# Altium schematic symbol library WE-HCI.SchLib: 126 symbols (part 2 of 3)
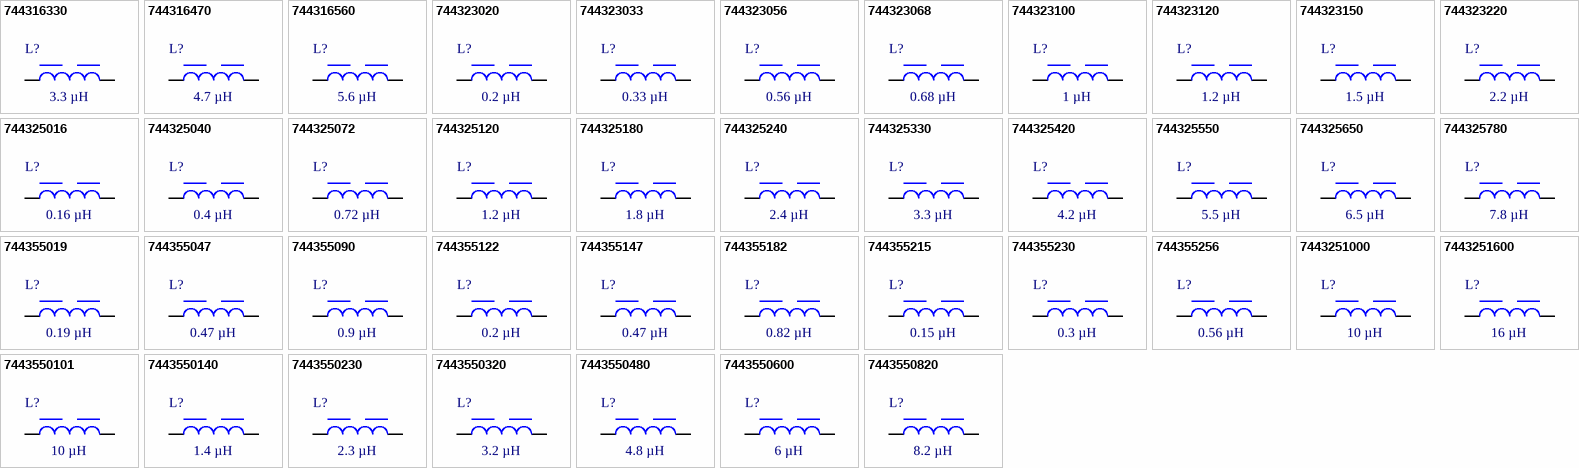
[diagram p4: symbols 744316330 to 7443550820]

## 744325180
designator L?, comment 1.8 µH
WE-HCI SMT Flat Wire High Current Inductor, size 1050, 1.8 µH, 22.1 A, 3.5 mΩ; Manufacturer Part Number: 744325180; Manufacturer: Wurth Elektronik; Case/Size Code: 1050; DC Resistance: 3.5 mΩ; Material: Superflux; Performance Rated Current: 22.1 A; Saturation Current: 18 A; Self Resonant Frequency: 70 MHz; Category: Power Inductors; Match Code: WE-HCI; ComponentLink1Description: Website Link; ComponentLink1URL: https://www.we-online.com/redexpert/article/744325180?ad; ComponentLink2Description: Datasheet Link; ComponentLink2URL: https://www.we-online.com/redexpert/spec/744325180?ad; Mount: Surface Mount; Min Operating Temperature: -40 °C; Max Operating Temperature: 150 °C; Packaging: Tape and Reel; Length: 10.2 mm; Width: 10.2 mm; Height: 4.7 mm; Inductance: 1.8 µH
footprint WE-HCI_1050
simulation model 1050_744325180_1.8u
pins: 1, 2

## 744325240
designator L?, comment 2.4 µH
WE-HCI SMT Flat Wire High Current Inductor, size 1050, 2.4 µH, 18.6 A, 4.75 mΩ; Manufacturer Part Number: 744325240; Manufacturer: Wurth Elektronik; Case/Size Code: 1050; DC Resistance: 4.75 mΩ; Material: Superflux; Performance Rated Current: 18.6 A; Saturation Current: 17 A; Self Resonant Frequency: 67 MHz; Category: Power Inductors; Match Code: WE-HCI; ComponentLink1Description: Website Link; ComponentLink1URL: https://www.we-online.com/redexpert/article/744325240?ad; ComponentLink2Description: Datasheet Link; ComponentLink2URL: https://www.we-online.com/redexpert/spec/744325240?ad; Mount: Surface Mount; Min Operating Temperature: -40 °C; Max Operating Temperature: 150 °C; Packaging: Tape and Reel; Length: 10.2 mm; Width: 10.2 mm; Height: 4.7 mm; Inductance: 2.4 µH
footprint WE-HCI_1050
simulation model 1050_744325240_2.4u
pins: 1, 2

## 744325330
designator L?, comment 3.3 µH
WE-HCI SMT Flat Wire High Current Inductor, size 1050, 3.3 µH, 16.6 A, 5.9 mΩ; Manufacturer Part Number: 744325330; Manufacturer: Wurth Elektronik; Case/Size Code: 1050; DC Resistance: 5.9 mΩ; Material: Superflux; Performance Rated Current: 16.6 A; Saturation Current: 15 A; Self Resonant Frequency: 54 MHz; Category: Power Inductors; Match Code: WE-HCI; ComponentLink1Description: Website Link; ComponentLink1URL: https://www.we-online.com/redexpert/article/744325330?ad; ComponentLink2Description: Datasheet Link; ComponentLink2URL: https://www.we-online.com/redexpert/spec/744325330?ad; Mount: Surface Mount; Min Operating Temperature: -40 °C; Max Operating Temperature: 150 °C; Packaging: Tape and Reel; Length: 10.2 mm; Width: 10.2 mm; Height: 4.7 mm; Inductance: 3.3 µH
footprint WE-HCI_1050
simulation model 1050_744325330_3.3u
pins: 1, 2

## 744325420
designator L?, comment 4.2 µH
WE-HCI SMT Flat Wire High Current Inductor, size 1050, 4.2 µH, 15.4 A, 7.1 mΩ; Manufacturer Part Number: 744325420; Manufacturer: Wurth Elektronik; Case/Size Code: 1050; DC Resistance: 7.1 mΩ; Material: Superflux; Performance Rated Current: 15.4 A; Saturation Current: 14 A; Self Resonant Frequency: 33 MHz; Category: Power Inductors; Match Code: WE-HCI; ComponentLink1Description: Website Link; ComponentLink1URL: https://www.we-online.com/redexpert/article/744325420?ad; ComponentLink2Description: Datasheet Link; ComponentLink2URL: https://www.we-online.com/redexpert/spec/744325420?ad; Mount: Surface Mount; Min Operating Temperature: -40 °C; Max Operating Temperature: 150 °C; Packaging: Tape and Reel; Length: 10.2 mm; Width: 10.2 mm; Height: 4.7 mm; Inductance: 4.2 µH
footprint WE-HCI_1050
simulation model 1050_744325420_4.2u
pins: 1, 2

## 744325550
designator L?, comment 5.5 µH
WE-HCI SMT Flat Wire High Current Inductor, size 1050, 5.5 µH, 12 A, 10.3 mΩ; Manufacturer Part Number: 744325550; Manufacturer: Wurth Elektronik; Case/Size Code: 1050; DC Resistance: 10.3 mΩ; Material: Superflux; Performance Rated Current: 12 A; Self Resonant Frequency: 30 MHz; Category: Power Inductors; Match Code: WE-HCI; ComponentLink1Description: Website Link; ComponentLink1URL: https://www.we-online.com/redexpert/article/744325550?ad; ComponentLink2Description: Datasheet Link; ComponentLink2URL: https://www.we-online.com/redexpert/spec/744325550?ad; Mount: Surface Mount; Min Operating Temperature: -40 °C; Max Operating Temperature: 150 °C; Packaging: Tape and Reel; Length: 10.2 mm; Width: 10.2 mm; Height: 4.7 mm; Inductance: 5.5 µH; Saturation Current: 12 A
footprint WE-HCI_1050
simulation model 1050_744325550_5.5u
pins: 1, 2

## 744325650
designator L?, comment 6.5 µH
WE-HCI SMT Flat Wire High Current Inductor, size 1050, 6.5 µH, 11 A, 12.5 mΩ; Manufacturer Part Number: 744325650; Manufacturer: Wurth Elektronik; Case/Size Code: 1050; DC Resistance: 12.5 mΩ; Material: Superflux; Performance Rated Current: 11 A; Saturation Current: 10 A; Self Resonant Frequency: 27 MHz; Category: Power Inductors; Match Code: WE-HCI; ComponentLink1Description: Website Link; ComponentLink1URL: https://www.we-online.com/redexpert/article/744325650?ad; ComponentLink2Description: Datasheet Link; ComponentLink2URL: https://www.we-online.com/redexpert/spec/744325650?ad; Mount: Surface Mount; Min Operating Temperature: -40 °C; Max Operating Temperature: 150 °C; Packaging: Tape and Reel; Length: 10.2 mm; Width: 10.2 mm; Height: 4.7 mm; Inductance: 6.5 µH
footprint WE-HCI_1050
simulation model 1050_744325650_6.5u
pins: 1, 2

## 744325780
designator L?, comment 7.8 µH
WE-HCI SMT Flat Wire High Current Inductor, size 1050, 7.8 µH, 10.7 A, 13.6 mΩ; Manufacturer Part Number: 744325780; Manufacturer: Wurth Elektronik; Case/Size Code: 1050; DC Resistance: 13.6 mΩ; Material: Superflux; Performance Rated Current: 10.7 A; Saturation Current: 9.5 A; Self Resonant Frequency: 23 MHz; Category: Power Inductors; Match Code: WE-HCI; ComponentLink1Description: Website Link; ComponentLink1URL: https://www.we-online.com/redexpert/article/744325780?ad; ComponentLink2Description: Datasheet Link; ComponentLink2URL: https://www.we-online.com/redexpert/spec/744325780?ad; Mount: Surface Mount; Min Operating Temperature: -40 °C; Max Operating Temperature: 150 °C; Packaging: Tape and Reel; Length: 10.2 mm; Width: 10.2 mm; Height: 4.7 mm; Inductance: 7.8 µH
footprint WE-HCI_1050
simulation model 1050_744325780_7.8u
pins: 1, 2

## 744355019
designator L?, comment 0.19 µH
WE-HCI SMT Flat Wire High Current Inductor, size 1350, 0.19 µH, 65 A, 0.5 mΩ; Manufacturer Part Number: 744355019; Manufacturer: Wurth Elektronik; Case/Size Code: 1350; DC Resistance: 0.5 mΩ; Material: WE-PERM; Performance Rated Current: 65 A; Saturation Current: 60 A; Self Resonant Frequency: 225 MHz; Category: Power Inductors; Match Code: WE-HCI; ComponentLink1Description: Website Link; ComponentLink1URL: https://www.we-online.com/redexpert/article/744355019?ad; ComponentLink2Description: Datasheet Link; ComponentLink2URL: https://www.we-online.com/redexpert/spec/744355019?ad; Mount: Surface Mount; Min Operating Temperature: -40 °C; Max Operating Temperature: 155 °C; Packaging: Tape and Reel; Length: 12.8 mm; Width: 12.8 mm; Height: 4.7 mm; Inductance: 0.19 µH
footprint WE-HCI_1350
simulation model 1350_744355019_0.19u
pins: 1, 2

## 744355047
designator L?, comment 0.47 µH
WE-HCI SMT Flat Wire High Current Inductor, size 1350, 0.47 µH, 50.1 A, 0.9 mΩ; Manufacturer Part Number: 744355047; Manufacturer: Wurth Elektronik; Case/Size Code: 1350; DC Resistance: 0.9 mΩ; Material: WE-PERM; Performance Rated Current: 50.1 A; Saturation Current: 50 A; Self Resonant Frequency: 95 MHz; Category: Power Inductors; Match Code: WE-HCI; ComponentLink1Description: Website Link; ComponentLink1URL: https://www.we-online.com/redexpert/article/744355047?ad; ComponentLink2Description: Datasheet Link; ComponentLink2URL: https://www.we-online.com/redexpert/spec/744355047?ad; Mount: Surface Mount; Min Operating Temperature: -40 °C; Max Operating Temperature: 155 °C; Packaging: Tape and Reel; Length: 12.8 mm; Width: 12.8 mm; Height: 4.7 mm; Inductance: 0.47 µH
footprint WE-HCI_1350
simulation model 1350_744355047_0.47u
pins: 1, 2

## 744355090
designator L?, comment 0.9 µH
WE-HCI SMT Flat Wire High Current Inductor, size 1350, 0.9 µH, 36 A, 1.6 mΩ; Manufacturer Part Number: 744355090; Manufacturer: Wurth Elektronik; Case/Size Code: 1350; DC Resistance: 1.6 mΩ; Material: WE-PERM; Performance Rated Current: 36 A; Saturation Current: 28 A; Self Resonant Frequency: 72 MHz; Category: Power Inductors; Match Code: WE-HCI; ComponentLink1Description: Website Link; ComponentLink1URL: https://www.we-online.com/redexpert/article/744355090?ad; ComponentLink2Description: Datasheet Link; ComponentLink2URL: https://www.we-online.com/redexpert/spec/744355090?ad; Mount: Surface Mount; Min Operating Temperature: -40 °C; Max Operating Temperature: 155 °C; Packaging: Tape and Reel; Length: 12.8 mm; Width: 12.8 mm; Height: 4.7 mm; Inductance: 0.9 µH
footprint WE-HCI_1350
simulation model 1350_744355090_0.9u
pins: 1, 2

## 744355122
designator L?, comment 0.2 µH
WE-HCI SMT Flat Wire High Current Inductor, size 1365, 0.2 µH, 69.7 A, 0.35 mΩ; Manufacturer Part Number: 744355122; Manufacturer: Wurth Elektronik; Case/Size Code: 1365; DC Resistance: 0.35 mΩ; Material: WE-PERM; Performance Rated Current: 69.7 A; Saturation Current: 65 A; Self Resonant Frequency: 230 MHz; Category: Power Inductors; Match Code: WE-HCI; ComponentLink1Description: Website Link; ComponentLink1URL: https://www.we-online.com/redexpert/article/744355122?ad; ComponentLink2Description: Datasheet Link; ComponentLink2URL: https://www.we-online.com/redexpert/spec/744355122?ad; Mount: Surface Mount; Min Operating Temperature: -40 °C; Max Operating Temperature: 155 °C; Packaging: Tape and Reel; Length: 12.8 mm; Width: 12.8 mm; Height: 6.2 mm; Inductance: 0.2 µH
footprint WE-HCI_1365
simulation model 1365_744355122_0.2u
pins: 1, 2

## 744355147
designator L?, comment 0.47 µH
WE-HCI SMT Flat Wire High Current Inductor, size 1365, 0.47 µH, 54.9 A, 0.67 mΩ; Manufacturer Part Number: 744355147; Manufacturer: Wurth Elektronik; Case/Size Code: 1365; DC Resistance: 0.67 mΩ; Material: WE-PERM; Performance Rated Current: 54.9 A; Saturation Current: 50 A; Self Resonant Frequency: 100 MHz; Category: Power Inductors; Match Code: WE-HCI; ComponentLink1Description: Website Link; ComponentLink1URL: https://www.we-online.com/redexpert/article/744355147?ad; ComponentLink2Description: Datasheet Link; ComponentLink2URL: https://www.we-online.com/redexpert/spec/744355147?ad; Mount: Surface Mount; Min Operating Temperature: -40 °C; Max Operating Temperature: 155 °C; Packaging: Tape and Reel; Length: 12.8 mm; Width: 12.8 mm; Height: 6.2 mm; Inductance: 0.47 µH
footprint WE-HCI_1365
simulation model 1365_744355147_0.47u
pins: 1, 2

## 744355182
designator L?, comment 0.82 µH
WE-HCI SMT Flat Wire High Current Inductor, size 1365, 0.82 µH, 44.5 A, 0.9 mΩ; Manufacturer Part Number: 744355182; Manufacturer: Wurth Elektronik; Case/Size Code: 1365; DC Resistance: 0.9 mΩ; Material: WE-PERM; Performance Rated Current: 44.5 A; Saturation Current: 35 A; Self Resonant Frequency: 72 MHz; Category: Power Inductors; Match Code: WE-HCI; ComponentLink1Description: Website Link; ComponentLink1URL: https://www.we-online.com/redexpert/article/744355182?ad; ComponentLink2Description: Datasheet Link; ComponentLink2URL: https://www.we-online.com/redexpert/spec/744355182?ad; Mount: Surface Mount; Min Operating Temperature: -40 °C; Max Operating Temperature: 155 °C; Packaging: Tape and Reel; Length: 12.8 mm; Width: 12.8 mm; Height: 6.2 mm; Inductance: 0.82 µH
footprint WE-HCI_1365
simulation model 1365_744355182_0.82u
pins: 1, 2

## 744355215
designator L?, comment 0.15 µH
WE-HCI SMT Flat Wire High Current Inductor, size 1040, 0.15 µH, 56.4 A, 0.58 mΩ; Manufacturer Part Number: 744355215; Manufacturer: Wurth Elektronik; Case/Size Code: 1040; DC Resistance: 0.58 mΩ; Material: WE-PERM; Performance Rated Current: 56.4 A; Saturation Current: 60 A; Self Resonant Frequency: 275 MHz; Category: Power Inductors; Match Code: WE-HCI; ComponentLink1Description: Website Link; ComponentLink1URL: https://www.we-online.com/redexpert/article/744355215?ad; ComponentLink2Description: Datasheet Link; ComponentLink2URL: https://www.we-online.com/redexpert/spec/744355215?ad; Mount: Surface Mount; Min Operating Temperature: -40 °C; Max Operating Temperature: 155 °C; Packaging: Tape and Reel; Length: 10.2 mm; Width: 10.2 mm; Height: 4 mm; Inductance: 0.15 µH
footprint WE-HCI_1040
simulation model 1040_744355215_0.15u
pins: 1, 2

## 744355230
designator L?, comment 0.3 µH
WE-HCI SMT Flat Wire High Current Inductor, size 1040, 0.3 µH, 42.2 A, 1.1 mΩ; Manufacturer Part Number: 744355230; Manufacturer: Wurth Elektronik; Case/Size Code: 1040; DC Resistance: 1.1 mΩ; Material: WE-PERM; Performance Rated Current: 42.2 A; Saturation Current: 35 A; Self Resonant Frequency: 170 MHz; Category: Power Inductors; Match Code: WE-HCI; ComponentLink1Description: Website Link; ComponentLink1URL: https://www.we-online.com/redexpert/article/744355230?ad; ComponentLink2Description: Datasheet Link; ComponentLink2URL: https://www.we-online.com/redexpert/spec/744355230?ad; Mount: Surface Mount; Min Operating Temperature: -40 °C; Max Operating Temperature: 155 °C; Packaging: Tape and Reel; Length: 10.2 mm; Width: 10.2 mm; Height: 4 mm; Inductance: 0.3 µH
footprint WE-HCI_1040
simulation model 1040_744355230_0.3u
pins: 1, 2

## 744355256
designator L?, comment 0.56 µH
WE-HCI SMT Flat Wire High Current Inductor, size 1040, 0.56 µH, 35.6 A, 1.61 mΩ; Manufacturer Part Number: 744355256; Manufacturer: Wurth Elektronik; Case/Size Code: 1040; DC Resistance: 1.61 mΩ; Material: WE-PERM; Performance Rated Current: 35.6 A; Saturation Current: 30 A; Self Resonant Frequency: 100 MHz; Category: Power Inductors; Match Code: WE-HCI; ComponentLink1Description: Website Link; ComponentLink1URL: https://www.we-online.com/redexpert/article/744355256?ad; ComponentLink2Description: Datasheet Link; ComponentLink2URL: https://www.we-online.com/redexpert/spec/744355256?ad; Mount: Surface Mount; Min Operating Temperature: -40 °C; Max Operating Temperature: 155 °C; Packaging: Tape and Reel; Length: 10.2 mm; Width: 10.2 mm; Height: 4 mm; Inductance: 0.56 µH
footprint WE-HCI_1040
simulation model 1040_744355256_0.56u
pins: 1, 2

## 7443251000
designator L?, comment 10 µH
WE-HCI SMT Flat Wire High Current Inductor, size 1050, 10 µH, 9.5 A, 16.3 mΩ; Manufacturer Part Number: 7443251000; Manufacturer: Wurth Elektronik; Case/Size Code: 1050; DC Resistance: 16.3 mΩ; Material: Superflux; Performance Rated Current: 9.5 A; Saturation Current: 8.5 A; Self Resonant Frequency: 21 MHz; Category: Power Inductors; Match Code: WE-HCI; ComponentLink1Description: Website Link; ComponentLink1URL: https://www.we-online.com/redexpert/article/7443251000?ad; ComponentLink2Description: Datasheet Link; ComponentLink2URL: https://www.we-online.com/redexpert/spec/7443251000?ad; Mount: Surface Mount; Min Operating Temperature: -40 °C; Max Operating Temperature: 150 °C; Packaging: Tape and Reel; Length: 10.2 mm; Width: 10.2 mm; Height: 4.7 mm; Inductance: 10 µH
footprint WE-HCI_1050
simulation model 1050_7443251000_10u
pins: 1, 2

## 7443251600
designator L?, comment 16 µH
WE-HCI SMT Flat Wire High Current Inductor, size 1050, 16 µH, 6.25 A, 34.5 mΩ; Manufacturer Part Number: 7443251600; Manufacturer: Wurth Elektronik; Case/Size Code: 1050; DC Resistance: 34.5 mΩ; Material: Superflux; Performance Rated Current: 6.25 A; Saturation Current: 6.5 A; Self Resonant Frequency: 18 MHz; Category: Power Inductors; Match Code: WE-HCI; ComponentLink1Description: Website Link; ComponentLink1URL: https://www.we-online.com/redexpert/article/7443251600?ad; ComponentLink2Description: Datasheet Link; ComponentLink2URL: https://www.we-online.com/redexpert/spec/7443251600?ad; Mount: Surface Mount; Min Operating Temperature: -40 °C; Max Operating Temperature: 150 °C; Packaging: Tape and Reel; Length: 10.2 mm; Width: 10.2 mm; Height: 4.7 mm; Inductance: 16 µH
footprint WE-HCI_1050
simulation model 1050_7443251600_16u
pins: 1, 2

## 7443550101
designator L?, comment 10 µH
WE-HCI SMT Flat Wire High Current Inductor, size 1350, 10 µH, 11.1 A, 14.1 mΩ; Manufacturer Part Number: 7443550101; Manufacturer: Wurth Elektronik; Case/Size Code: 1350; DC Resistance: 14.1 mΩ; Material: WE-PERM; Performance Rated Current: 11.1 A; Saturation Current: 10 A; Self Resonant Frequency: 18 MHz; Category: Power Inductors; Match Code: WE-HCI; ComponentLink1Description: Website Link; ComponentLink1URL: https://www.we-online.com/redexpert/article/7443550101?ad; ComponentLink2Description: Datasheet Link; ComponentLink2URL: https://www.we-online.com/redexpert/spec/7443550101?ad; Mount: Surface Mount; Min Operating Temperature: -40 °C; Max Operating Temperature: 155 °C; Packaging: Tape and Reel; Length: 12.8 mm; Width: 12.8 mm; Height: 4.7 mm; Inductance: 10 µH
footprint WE-HCI_1350
simulation model 1350_7443550101_10u
pins: 1, 2

## 7443550140
designator L?, comment 1.4 µH
WE-HCI SMT Flat Wire High Current Inductor, size 1350, 1.4 µH, 29 A, 2.4 mΩ; Manufacturer Part Number: 7443550140; Manufacturer: Wurth Elektronik; Case/Size Code: 1350; DC Resistance: 2.4 mΩ; Material: WE-PERM; Performance Rated Current: 29 A; Saturation Current: 26 A; Self Resonant Frequency: 60 MHz; Category: Power Inductors; Match Code: WE-HCI; ComponentLink1Description: Website Link; ComponentLink1URL: https://www.we-online.com/redexpert/article/7443550140?ad; ComponentLink2Description: Datasheet Link; ComponentLink2URL: https://www.we-online.com/redexpert/spec/7443550140?ad; Mount: Surface Mount; Min Operating Temperature: -40 °C; Max Operating Temperature: 155 °C; Packaging: Tape and Reel; Length: 12.8 mm; Width: 12.8 mm; Height: 4.7 mm; Inductance: 1.4 µH
footprint WE-HCI_1350
simulation model 1350_7443550140_1.4u
pins: 1, 2

## 7443550230
designator L?, comment 2.3 µH
WE-HCI SMT Flat Wire High Current Inductor, size 1350, 2.3 µH, 23.8 A, 3.7 mΩ; Manufacturer Part Number: 7443550230; Manufacturer: Wurth Elektronik; Case/Size Code: 1350; DC Resistance: 3.7 mΩ; Material: WE-PERM; Performance Rated Current: 23.8 A; Saturation Current: 17 A; Self Resonant Frequency: 40 MHz; Category: Power Inductors; Match Code: WE-HCI; ComponentLink1Description: Website Link; ComponentLink1URL: https://www.we-online.com/redexpert/article/7443550230?ad; ComponentLink2Description: Datasheet Link; ComponentLink2URL: https://www.we-online.com/redexpert/spec/7443550230?ad; Mount: Surface Mount; Min Operating Temperature: -40 °C; Max Operating Temperature: 155 °C; Packaging: Tape and Reel; Length: 12.8 mm; Width: 12.8 mm; Height: 4.7 mm; Inductance: 2.3 µH
footprint WE-HCI_1350
simulation model 1350_7443550230_2.3u
pins: 1, 2

## 7443550320
designator L?, comment 3.2 µH
WE-HCI SMT Flat Wire High Current Inductor, size 1350, 3.2 µH, 19.1 A, 5.3 mΩ; Manufacturer Part Number: 7443550320; Manufacturer: Wurth Elektronik; Case/Size Code: 1350; DC Resistance: 5.3 mΩ; Material: WE-PERM; Performance Rated Current: 19.1 A; Saturation Current: 15 A; Self Resonant Frequency: 34 MHz; Category: Power Inductors; Match Code: WE-HCI; ComponentLink1Description: Website Link; ComponentLink1URL: https://www.we-online.com/redexpert/article/7443550320?ad; ComponentLink2Description: Datasheet Link; ComponentLink2URL: https://www.we-online.com/redexpert/spec/7443550320?ad; Mount: Surface Mount; Min Operating Temperature: -40 °C; Max Operating Temperature: 155 °C; Packaging: Tape and Reel; Length: 12.8 mm; Width: 12.8 mm; Height: 4.7 mm; Inductance: 3.2 µH
footprint WE-HCI_1350
simulation model 1350_7443550320_3.2u
pins: 1, 2

## 7443550480
designator L?, comment 4.8 µH
WE-HCI SMT Flat Wire High Current Inductor, size 1350, 4.8 µH, 12.9 A, 10.5 mΩ; Manufacturer Part Number: 7443550480; Manufacturer: Wurth Elektronik; Case/Size Code: 1350; DC Resistance: 10.5 mΩ; Material: WE-PERM; Performance Rated Current: 12.9 A; Saturation Current: 13 A; Self Resonant Frequency: 28 MHz; Category: Power Inductors; Match Code: WE-HCI; ComponentLink1Description: Website Link; ComponentLink1URL: https://www.we-online.com/redexpert/article/7443550480?ad; ComponentLink2Description: Datasheet Link; ComponentLink2URL: https://www.we-online.com/redexpert/spec/7443550480?ad; Mount: Surface Mount; Min Operating Temperature: -40 °C; Max Operating Temperature: 155 °C; Packaging: Tape and Reel; Length: 12.8 mm; Width: 12.8 mm; Height: 4.7 mm; Inductance: 4.8 µH
footprint WE-HCI_1350
simulation model 1350_7443550480_4.8u
pins: 1, 2

## 7443550600
designator L?, comment 6 µH
WE-HCI SMT Flat Wire High Current Inductor, size 1350, 6 µH, 11.2 A, 13.5 mΩ; Manufacturer Part Number: 7443550600; Manufacturer: Wurth Elektronik; Case/Size Code: 1350; DC Resistance: 13.5 mΩ; Material: WE-PERM; Performance Rated Current: 11.2 A; Saturation Current: 11.5 A; Self Resonant Frequency: 22 MHz; Category: Power Inductors; Match Code: WE-HCI; ComponentLink1Description: Website Link; ComponentLink1URL: https://www.we-online.com/redexpert/article/7443550600?ad; ComponentLink2Description: Datasheet Link; ComponentLink2URL: https://www.we-online.com/redexpert/spec/7443550600?ad; Mount: Surface Mount; Min Operating Temperature: -40 °C; Max Operating Temperature: 155 °C; Packaging: Tape and Reel; Length: 12.8 mm; Width: 12.8 mm; Height: 4.7 mm; Inductance: 6 µH
footprint WE-HCI_1350
simulation model 1350_7443550600_6u
pins: 1, 2

## 7443550820
designator L?, comment 8.2 µH
WE-HCI SMT Flat Wire High Current Inductor, size 1350, 8.2 µH, 12.5 A, 11.6 mΩ; Manufacturer Part Number: 7443550820; Manufacturer: Wurth Elektronik; Case/Size Code: 1350; DC Resistance: 11.6 mΩ; Material: WE-PERM; Performance Rated Current: 12.5 A; Saturation Current: 11 A; Self Resonant Frequency: 20 MHz; Category: Power Inductors; Match Code: WE-HCI; ComponentLink1Description: Website Link; ComponentLink1URL: https://www.we-online.com/redexpert/article/7443550820?ad; ComponentLink2Description: Datasheet Link; ComponentLink2URL: https://www.we-online.com/redexpert/spec/7443550820?ad; Mount: Surface Mount; Min Operating Temperature: -40 °C; Max Operating Temperature: 155 °C; Packaging: Tape and Reel; Length: 12.8 mm; Width: 12.8 mm; Height: 4.7 mm; Inductance: 8.2 µH
footprint WE-HCI_1350
simulation model 1350_7443550820_8.2u
pins: 1, 2

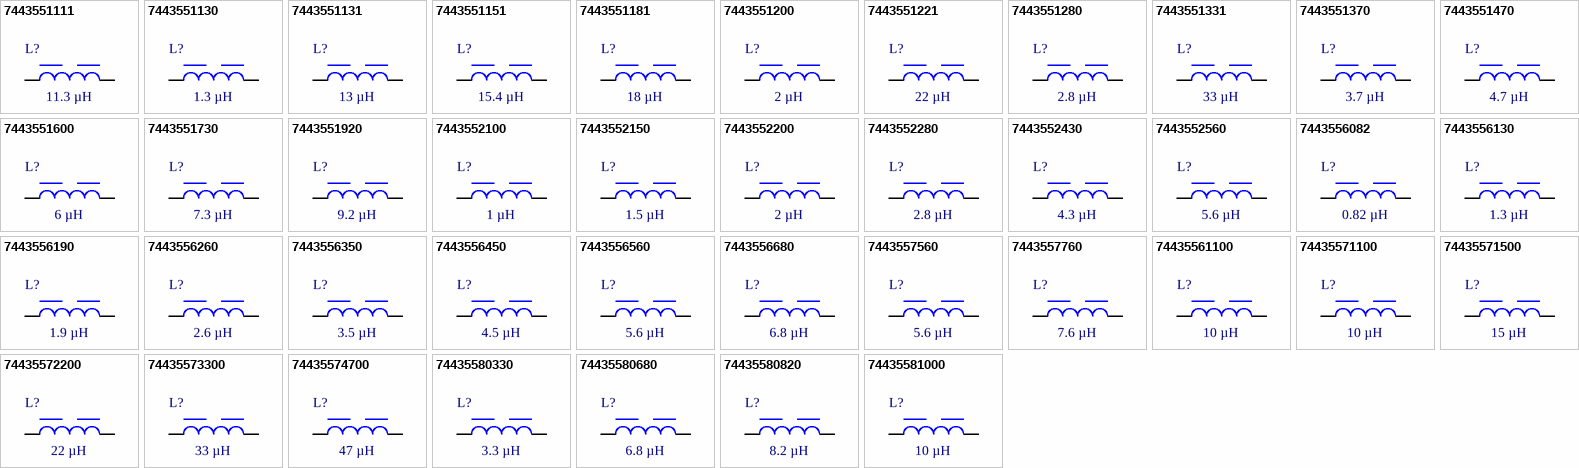
[diagram p2: symbols 7443551111 to 74435581000]

## 7443551111
designator L?, comment 11.3 µH
WE-HCI SMT Flat Wire High Current Inductor, size 1365, 11.3 µH, 13.1 A, 9.1 mΩ; Manufacturer Part Number: 7443551111; Manufacturer: Wurth Elektronik; Case/Size Code: 1365; DC Resistance: 9.1 mΩ; Material: WE-PERM; Performance Rated Current: 13.1 A; Saturation Current: 9.5 A; Self Resonant Frequency: 12 MHz; Category: Power Inductors; Match Code: WE-HCI; ComponentLink1Description: Website Link; ComponentLink1URL: https://www.we-online.com/redexpert/article/7443551111?ad; ComponentLink2Description: Datasheet Link; ComponentLink2URL: https://www.we-online.com/redexpert/spec/7443551111?ad; Mount: Surface Mount; Min Operating Temperature: -40 °C; Max Operating Temperature: 155 °C; Packaging: Tape and Reel; Length: 12.8 mm; Width: 12.8 mm; Height: 6.2 mm; Inductance: 11.3 µH
footprint WE-HCI_1365
simulation model 1365_7443551111_11.3u
pins: 1, 2

## 7443551130
designator L?, comment 1.3 µH
WE-HCI SMT Flat Wire High Current Inductor, size 1365, 1.3 µH, 32.1 A, 1.8 mΩ; Manufacturer Part Number: 7443551130; Manufacturer: Wurth Elektronik; Case/Size Code: 1365; DC Resistance: 1.8 mΩ; Material: WE-PERM; Performance Rated Current: 32.1 A; Saturation Current: 25 A; Self Resonant Frequency: 59 MHz; Category: Power Inductors; Match Code: WE-HCI; ComponentLink1Description: Website Link; ComponentLink1URL: https://www.we-online.com/redexpert/article/7443551130?ad; ComponentLink2Description: Datasheet Link; ComponentLink2URL: https://www.we-online.com/redexpert/spec/7443551130?ad; Mount: Surface Mount; Min Operating Temperature: -40 °C; Max Operating Temperature: 155 °C; Packaging: Tape and Reel; Length: 12.8 mm; Width: 12.8 mm; Height: 6.2 mm; Inductance: 1.3 µH
footprint WE-HCI_1365
simulation model 1365_7443551130_1.3u
pins: 1, 2

## 7443551131
designator L?, comment 13 µH
WE-HCI SMT Flat Wire High Current Inductor, size 1365, 13 µH, 11.9 A, 11.2 mΩ; Manufacturer Part Number: 7443551131; Manufacturer: Wurth Elektronik; Case/Size Code: 1365; DC Resistance: 11.2 mΩ; Material: WE-PERM; Performance Rated Current: 11.9 A; Saturation Current: 9 A; Self Resonant Frequency: 14 MHz; Category: Power Inductors; Match Code: WE-HCI; ComponentLink1Description: Website Link; ComponentLink1URL: https://www.we-online.com/redexpert/article/7443551131?ad; ComponentLink2Description: Datasheet Link; ComponentLink2URL: https://www.we-online.com/redexpert/spec/7443551131?ad; Mount: Surface Mount; Min Operating Temperature: -40 °C; Max Operating Temperature: 155 °C; Packaging: Tape and Reel; Length: 12.8 mm; Width: 12.8 mm; Height: 6.2 mm; Inductance: 13 µH
footprint WE-HCI_1365
simulation model 1365_7443551131_13u
pins: 1, 2

## 7443551151
designator L?, comment 15.4 µH
WE-HCI SMT Flat Wire High Current Inductor, size 1365, 15.4 µH, 10 A, 14.8 mΩ; Manufacturer Part Number: 7443551151; Manufacturer: Wurth Elektronik; Case/Size Code: 1365; DC Resistance: 14.8 mΩ; Material: WE-PERM; Performance Rated Current: 10 A; Saturation Current: 8 A; Self Resonant Frequency: 15 MHz; Category: Power Inductors; Match Code: WE-HCI; ComponentLink1Description: Website Link; ComponentLink1URL: https://www.we-online.com/redexpert/article/7443551151?ad; ComponentLink2Description: Datasheet Link; ComponentLink2URL: https://www.we-online.com/redexpert/spec/7443551151?ad; Mount: Surface Mount; Min Operating Temperature: -40 °C; Max Operating Temperature: 155 °C; Packaging: Tape and Reel; Length: 12.8 mm; Width: 12.8 mm; Height: 6.2 mm; Inductance: 15.4 µH
footprint WE-HCI_1365
simulation model 1365_7443551151_15.4u
pins: 1, 2

## 7443551181
designator L?, comment 18 µH
WE-HCI SMT Flat Wire High Current Inductor, size 1365, 18 µH, 7.4 A, 22 mΩ; Manufacturer Part Number: 7443551181; Manufacturer: Wurth Elektronik; Case/Size Code: 1365; DC Resistance: 22 mΩ; Material: WE-PERM; Performance Rated Current: 7.4 A; Saturation Current: 7.5 A; Self Resonant Frequency: 16 MHz; Category: Power Inductors; Match Code: WE-HCI; ComponentLink1Description: Website Link; ComponentLink1URL: https://www.we-online.com/redexpert/article/7443551181?ad; ComponentLink2Description: Datasheet Link; ComponentLink2URL: https://www.we-online.com/redexpert/spec/7443551181?ad; Mount: Surface Mount; Min Operating Temperature: -40 °C; Max Operating Temperature: 155 °C; Packaging: Tape and Reel; Length: 12.8 mm; Width: 12.8 mm; Height: 6.2 mm; Inductance: 18 µH
footprint WE-HCI_1365
simulation model 1365_7443551181_18u
pins: 1, 2

## 7443551200
designator L?, comment 2 µH
WE-HCI SMT Flat Wire High Current Inductor, size 1365, 2 µH, 26.5 A, 2.6 mΩ; Manufacturer Part Number: 7443551200; Manufacturer: Wurth Elektronik; Case/Size Code: 1365; DC Resistance: 2.6 mΩ; Material: WE-PERM; Performance Rated Current: 26.5 A; Saturation Current: 22 A; Self Resonant Frequency: 45 MHz; Category: Power Inductors; Match Code: WE-HCI; ComponentLink1Description: Website Link; ComponentLink1URL: https://www.we-online.com/redexpert/article/7443551200?ad; ComponentLink2Description: Datasheet Link; ComponentLink2URL: https://www.we-online.com/redexpert/spec/7443551200?ad; Mount: Surface Mount; Min Operating Temperature: -40 °C; Max Operating Temperature: 155 °C; Packaging: Tape and Reel; Length: 12.8 mm; Width: 12.8 mm; Height: 6.2 mm; Inductance: 2 µH
footprint WE-HCI_1365
simulation model 1365_7443551200_2u
pins: 1, 2

## 7443551221
designator L?, comment 22 µH
WE-HCI SMT Flat Wire High Current Inductor, size 1365, 22 µH, 7.1 A, 24.7 mΩ; Manufacturer Part Number: 7443551221; Manufacturer: Wurth Elektronik; Case/Size Code: 1365; DC Resistance: 24.7 mΩ; Material: WE-PERM; Performance Rated Current: 7.1 A; Saturation Current: 6.5 A; Self Resonant Frequency: 14 MHz; Category: Power Inductors; Match Code: WE-HCI; ComponentLink1Description: Website Link; ComponentLink1URL: https://www.we-online.com/redexpert/article/7443551221?ad; ComponentLink2Description: Datasheet Link; ComponentLink2URL: https://www.we-online.com/redexpert/spec/7443551221?ad; Mount: Surface Mount; Min Operating Temperature: -40 °C; Max Operating Temperature: 155 °C; Packaging: Tape and Reel; Length: 12.8 mm; Width: 12.8 mm; Height: 6.2 mm; Inductance: 22 µH
footprint WE-HCI_1365
simulation model 1365_7443551221_22u
pins: 1, 2

## 7443551280
designator L?, comment 2.8 µH
WE-HCI SMT Flat Wire High Current Inductor, size 1365, 2.8 µH, 22.5 A, 3.3 mΩ; Manufacturer Part Number: 7443551280; Manufacturer: Wurth Elektronik; Case/Size Code: 1365; DC Resistance: 3.3 mΩ; Material: WE-PERM; Performance Rated Current: 22.5 A; Saturation Current: 17.5 A; Self Resonant Frequency: 35 MHz; Category: Power Inductors; Match Code: WE-HCI; ComponentLink1Description: Website Link; ComponentLink1URL: https://www.we-online.com/redexpert/article/7443551280?ad; ComponentLink2Description: Datasheet Link; ComponentLink2URL: https://www.we-online.com/redexpert/spec/7443551280?ad; Mount: Surface Mount; Min Operating Temperature: -40 °C; Max Operating Temperature: 155 °C; Packaging: Tape and Reel; Length: 12.8 mm; Width: 12.8 mm; Height: 6.2 mm; Inductance: 2.8 µH
footprint WE-HCI_1365
simulation model 1365_7443551280_2.8u
pins: 1, 2

## 7443551331
designator L?, comment 33 µH
WE-HCI SMT Flat Wire High Current Inductor, size 1365, 33 µH, 6.6 A, 30.5 mΩ; Manufacturer Part Number: 7443551331; Manufacturer: Wurth Elektronik; Case/Size Code: 1365; DC Resistance: 30.5 mΩ; Material: WE-PERM; Performance Rated Current: 6.6 A; Saturation Current: 5.5 A; Self Resonant Frequency: 11 MHz; Category: Power Inductors; Match Code: WE-HCI; ComponentLink1Description: Website Link; ComponentLink1URL: https://www.we-online.com/redexpert/article/7443551331?ad; ComponentLink2Description: Datasheet Link; ComponentLink2URL: https://www.we-online.com/redexpert/spec/7443551331?ad; Mount: Surface Mount; Min Operating Temperature: -40 °C; Max Operating Temperature: 155 °C; Packaging: Tape and Reel; Length: 12.8 mm; Width: 12.8 mm; Height: 6.2 mm; Inductance: 33 µH
footprint WE-HCI_1365
simulation model 1365_7443551331_33u
pins: 1, 2

## 7443551370
designator L?, comment 3.7 µH
WE-HCI SMT Flat Wire High Current Inductor, size 1365, 3.7 µH, 18.3 A, 4.9 mΩ; Manufacturer Part Number: 7443551370; Manufacturer: Wurth Elektronik; Case/Size Code: 1365; DC Resistance: 4.9 mΩ; Material: WE-PERM; Performance Rated Current: 18.3 A; Saturation Current: 16 A; Self Resonant Frequency: 26 MHz; Category: Power Inductors; Match Code: WE-HCI; ComponentLink1Description: Website Link; ComponentLink1URL: https://www.we-online.com/redexpert/article/7443551370?ad; ComponentLink2Description: Datasheet Link; ComponentLink2URL: https://www.we-online.com/redexpert/spec/7443551370?ad; Mount: Surface Mount; Min Operating Temperature: -40 °C; Max Operating Temperature: 155 °C; Packaging: Tape and Reel; Length: 12.8 mm; Width: 12.8 mm; Height: 6.2 mm; Inductance: 3.7 µH
footprint WE-HCI_1365
simulation model 1365_7443551370_3.7u
pins: 1, 2

## 7443551470
designator L?, comment 4.7 µH
WE-HCI SMT Flat Wire High Current Inductor, size 1365, 4.7 µH, 14.9 A, 7 mΩ; Manufacturer Part Number: 7443551470; Manufacturer: Wurth Elektronik; Case/Size Code: 1365; DC Resistance: 7 mΩ; Material: WE-PERM; Performance Rated Current: 14.9 A; Saturation Current: 15 A; Self Resonant Frequency: 30 MHz; Category: Power Inductors; Match Code: WE-HCI; ComponentLink1Description: Website Link; ComponentLink1URL: https://www.we-online.com/redexpert/article/7443551470?ad; ComponentLink2Description: Datasheet Link; ComponentLink2URL: https://www.we-online.com/redexpert/spec/7443551470?ad; Mount: Surface Mount; Min Operating Temperature: -40 °C; Max Operating Temperature: 155 °C; Packaging: Tape and Reel; Length: 12.8 mm; Width: 12.8 mm; Height: 6.2 mm; Inductance: 4.7 µH
footprint WE-HCI_1365
simulation model 1365_7443551470_4.7u
pins: 1, 2

## 7443551600
designator L?, comment 6 µH
WE-HCI SMT Flat Wire High Current Inductor, size 1365, 6 µH, 13.6 A, 8.4 mΩ; Manufacturer Part Number: 7443551600; Manufacturer: Wurth Elektronik; Case/Size Code: 1365; DC Resistance: 8.4 mΩ; Material: WE-PERM; Performance Rated Current: 13.6 A; Saturation Current: 14 A; Self Resonant Frequency: 22 MHz; Category: Power Inductors; Match Code: WE-HCI; ComponentLink1Description: Website Link; ComponentLink1URL: https://www.we-online.com/redexpert/article/7443551600?ad; ComponentLink2Description: Datasheet Link; ComponentLink2URL: https://www.we-online.com/redexpert/spec/7443551600?ad; Mount: Surface Mount; Min Operating Temperature: -40 °C; Max Operating Temperature: 155 °C; Packaging: Tape and Reel; Length: 12.8 mm; Width: 12.8 mm; Height: 6.2 mm; Inductance: 6 µH
footprint WE-HCI_1365
simulation model 1365_7443551600_6u
pins: 1, 2

## 7443551730
designator L?, comment 7.3 µH
WE-HCI SMT Flat Wire High Current Inductor, size 1365, 7.3 µH, 16.5 A, 5.9 mΩ; Manufacturer Part Number: 7443551730; Manufacturer: Wurth Elektronik; Case/Size Code: 1365; DC Resistance: 5.9 mΩ; Material: WE-PERM; Performance Rated Current: 16.5 A; Saturation Current: 12 A; Self Resonant Frequency: 28 MHz; Category: Power Inductors; Match Code: WE-HCI; ComponentLink1Description: Website Link; ComponentLink1URL: https://www.we-online.com/redexpert/article/7443551730?ad; ComponentLink2Description: Datasheet Link; ComponentLink2URL: https://www.we-online.com/redexpert/spec/7443551730?ad; Mount: Surface Mount; Min Operating Temperature: -40 °C; Max Operating Temperature: 155 °C; Packaging: Tape and Reel; Length: 12.8 mm; Width: 12.8 mm; Height: 6.2 mm; Inductance: 7.3 µH
footprint WE-HCI_1365
simulation model 1365_7443551730_7.3u
pins: 1, 2

## 7443551920
designator L?, comment 9.2 µH
WE-HCI SMT Flat Wire High Current Inductor, size 1365, 9.2 µH, 14.4 A, 7.8 mΩ; Manufacturer Part Number: 7443551920; Manufacturer: Wurth Elektronik; Case/Size Code: 1365; DC Resistance: 7.8 mΩ; Material: WE-PERM; Performance Rated Current: 14.4 A; Saturation Current: 10.5 A; Self Resonant Frequency: 26 MHz; Category: Power Inductors; Match Code: WE-HCI; ComponentLink1Description: Website Link; ComponentLink1URL: https://www.we-online.com/redexpert/article/7443551920?ad; ComponentLink2Description: Datasheet Link; ComponentLink2URL: https://www.we-online.com/redexpert/spec/7443551920?ad; Mount: Surface Mount; Min Operating Temperature: -40 °C; Max Operating Temperature: 155 °C; Packaging: Tape and Reel; Length: 12.8 mm; Width: 12.8 mm; Height: 6.2 mm; Inductance: 9.2 µH
footprint WE-HCI_1365
simulation model 1365_7443551920_9.2u
pins: 1, 2

## 7443552100
designator L?, comment 1 µH
WE-HCI SMT Flat Wire High Current Inductor, size 1040, 1 µH, 23.1 A, 3.3 mΩ; Manufacturer Part Number: 7443552100; Manufacturer: Wurth Elektronik; Case/Size Code: 1040; DC Resistance: 3.3 mΩ; Material: WE-PERM; Performance Rated Current: 23.1 A; Saturation Current: 20 A; Self Resonant Frequency: 80 MHz; Category: Power Inductors; Match Code: WE-HCI; ComponentLink1Description: Website Link; ComponentLink1URL: https://www.we-online.com/redexpert/article/7443552100?ad; ComponentLink2Description: Datasheet Link; ComponentLink2URL: https://www.we-online.com/redexpert/spec/7443552100?ad; Mount: Surface Mount; Min Operating Temperature: -40 °C; Max Operating Temperature: 155 °C; Packaging: Tape and Reel; Length: 10.2 mm; Width: 10.2 mm; Height: 4 mm; Inductance: 1 µH
footprint WE-HCI_1040
simulation model 1040_7443552100_1u
pins: 1, 2

## 7443552150
designator L?, comment 1.5 µH
WE-HCI SMT Flat Wire High Current Inductor, size 1040, 1.5 µH, 18 A, 5.3 mΩ; Manufacturer Part Number: 7443552150; Manufacturer: Wurth Elektronik; Case/Size Code: 1040; DC Resistance: 5.3 mΩ; Material: WE-PERM; Performance Rated Current: 18 A; Saturation Current: 17 A; Self Resonant Frequency: 63 MHz; Category: Power Inductors; Match Code: WE-HCI; ComponentLink1Description: Website Link; ComponentLink1URL: https://www.we-online.com/redexpert/article/7443552150?ad; ComponentLink2Description: Datasheet Link; ComponentLink2URL: https://www.we-online.com/redexpert/spec/7443552150?ad; Mount: Surface Mount; Min Operating Temperature: -40 °C; Max Operating Temperature: 155 °C; Packaging: Tape and Reel; Length: 10.2 mm; Width: 10.2 mm; Height: 4 mm; Inductance: 1.5 µH
footprint WE-HCI_1040
simulation model 1040_7443552150_1.5u
pins: 1, 2

## 7443552200
designator L?, comment 2 µH
WE-HCI SMT Flat Wire High Current Inductor, size 1040, 2 µH, 14.8 A, 7.3 mΩ; Manufacturer Part Number: 7443552200; Manufacturer: Wurth Elektronik; Case/Size Code: 1040; DC Resistance: 7.3 mΩ; Material: WE-PERM; Performance Rated Current: 14.8 A; Saturation Current: 13 A; Self Resonant Frequency: 53 MHz; Category: Power Inductors; Match Code: WE-HCI; ComponentLink1Description: Website Link; ComponentLink1URL: https://www.we-online.com/redexpert/article/7443552200?ad; ComponentLink2Description: Datasheet Link; ComponentLink2URL: https://www.we-online.com/redexpert/spec/7443552200?ad; Mount: Surface Mount; Min Operating Temperature: -40 °C; Max Operating Temperature: 155 °C; Packaging: Tape and Reel; Length: 10.2 mm; Width: 10.2 mm; Height: 4 mm; Inductance: 2 µH
footprint WE-HCI_1040
simulation model 1040_7443552200_2u
pins: 1, 2

## 7443552280
designator L?, comment 2.8 µH
WE-HCI SMT Flat Wire High Current Inductor, size 1040, 2.8 µH, 12.1 A, 10.6 mΩ; Manufacturer Part Number: 7443552280; Manufacturer: Wurth Elektronik; Case/Size Code: 1040; DC Resistance: 10.6 mΩ; Material: WE-PERM; Performance Rated Current: 12.1 A; Saturation Current: 11 A; Self Resonant Frequency: 46 MHz; Category: Power Inductors; Match Code: WE-HCI; ComponentLink1Description: Website Link; ComponentLink1URL: https://www.we-online.com/redexpert/article/7443552280?ad; ComponentLink2Description: Datasheet Link; ComponentLink2URL: https://www.we-online.com/redexpert/spec/7443552280?ad; Mount: Surface Mount; Min Operating Temperature: -40 °C; Max Operating Temperature: 155 °C; Packaging: Tape and Reel; Length: 10.2 mm; Width: 10.2 mm; Height: 4 mm; Inductance: 2.8 µH
footprint WE-HCI_1040
simulation model 1040_7443552280_2.8u
pins: 1, 2

## 7443552430
designator L?, comment 4.3 µH
WE-HCI SMT Flat Wire High Current Inductor, size 1040, 4.3 µH, 10.9 A, 14.1 mΩ; Manufacturer Part Number: 7443552430; Manufacturer: Wurth Elektronik; Case/Size Code: 1040; DC Resistance: 14.1 mΩ; Material: WE-PERM; Performance Rated Current: 10.9 A; Saturation Current: 8 A; Self Resonant Frequency: 33 MHz; Category: Power Inductors; Match Code: WE-HCI; ComponentLink1Description: Website Link; ComponentLink1URL: https://www.we-online.com/redexpert/article/7443552430?ad; ComponentLink2Description: Datasheet Link; ComponentLink2URL: https://www.we-online.com/redexpert/spec/7443552430?ad; Mount: Surface Mount; Min Operating Temperature: -40 °C; Max Operating Temperature: 155 °C; Packaging: Tape and Reel; Length: 10.2 mm; Width: 10.2 mm; Height: 4 mm; Inductance: 4.3 µH
footprint WE-HCI_1040
simulation model 1040_7443552430_4.3u
pins: 1, 2

## 7443552560
designator L?, comment 5.6 µH
WE-HCI SMT Flat Wire High Current Inductor, size 1040, 5.6 µH, 8.3 A, 20.6 mΩ; Manufacturer Part Number: 7443552560; Manufacturer: Wurth Elektronik; Case/Size Code: 1040; DC Resistance: 20.6 mΩ; Material: WE-PERM; Performance Rated Current: 8.3 A; Saturation Current: 7.5 A; Self Resonant Frequency: 30 MHz; Category: Power Inductors; Match Code: WE-HCI; ComponentLink1Description: Website Link; ComponentLink1URL: https://www.we-online.com/redexpert/article/7443552560?ad; ComponentLink2Description: Datasheet Link; ComponentLink2URL: https://www.we-online.com/redexpert/spec/7443552560?ad; Mount: Surface Mount; Min Operating Temperature: -40 °C; Max Operating Temperature: 155 °C; Packaging: Tape and Reel; Length: 10.2 mm; Width: 10.2 mm; Height: 4 mm; Inductance: 5.6 µH
footprint WE-HCI_1040
simulation model 1040_7443552560_5.6u
pins: 1, 2

## 7443556082
designator L?, comment 0.82 µH
WE-HCI SMT Flat Wire High Current Inductor, size 1890, 0.82 µH, 65.3 A, 0.54 mΩ; Manufacturer Part Number: 7443556082; Manufacturer: Wurth Elektronik; Case/Size Code: 1890; DC Resistance: 0.54 mΩ; Material: WE-PERM 2; Performance Rated Current: 65.3 A; Saturation Current: 65 A; Self Resonant Frequency: 85 MHz; Category: Power Inductors; Match Code: WE-HCI; ComponentLink1Description: Website Link; ComponentLink1URL: https://www.we-online.com/redexpert/article/7443556082?ad; ComponentLink2Description: Datasheet Link; ComponentLink2URL: https://www.we-online.com/redexpert/spec/7443556082?ad; Mount: Surface Mount; Min Operating Temperature: -40 °C; Max Operating Temperature: 150 °C; Packaging: Tape and Reel; Length: 18.2 mm; Width: 18.2 mm; Height: 8.9 mm; Inductance: 0.82 µH
footprint WE-HCI_1890
simulation model 1890_7443556082_0.82u
pins: 1, 2

## 7443556130
designator L?, comment 1.3 µH
WE-HCI SMT Flat Wire High Current Inductor, size 1890, 1.3 µH, 47.7 A, 0.94 mΩ; Manufacturer Part Number: 7443556130; Manufacturer: Wurth Elektronik; Case/Size Code: 1890; DC Resistance: 0.94 mΩ; Material: WE-PERM 2; Performance Rated Current: 47.7 A; Saturation Current: 62 A; Self Resonant Frequency: 78 MHz; Category: Power Inductors; Match Code: WE-HCI; ComponentLink1Description: Website Link; ComponentLink1URL: https://www.we-online.com/redexpert/article/7443556130?ad; ComponentLink2Description: Datasheet Link; ComponentLink2URL: https://www.we-online.com/redexpert/spec/7443556130?ad; Mount: Surface Mount; Min Operating Temperature: -40 °C; Max Operating Temperature: 150 °C; Packaging: Tape and Reel; Length: 18.2 mm; Width: 18.2 mm; Height: 8.9 mm; Inductance: 1.3 µH
footprint WE-HCI_1890
simulation model 1890_7443556130_1.3u
pins: 1, 2

## 7443556190
designator L?, comment 1.9 µH
WE-HCI SMT Flat Wire High Current Inductor, size 1890, 1.9 µH, 42.1 A, 1.2 mΩ; Manufacturer Part Number: 7443556190; Manufacturer: Wurth Elektronik; Case/Size Code: 1890; DC Resistance: 1.2 mΩ; Material: WE-PERM 2; Performance Rated Current: 42.1 A; Saturation Current: 52 A; Self Resonant Frequency: 51 MHz; Category: Power Inductors; Match Code: WE-HCI; ComponentLink1Description: Website Link; ComponentLink1URL: https://www.we-online.com/redexpert/article/7443556190?ad; ComponentLink2Description: Datasheet Link; ComponentLink2URL: https://www.we-online.com/redexpert/spec/7443556190?ad; Mount: Surface Mount; Min Operating Temperature: -40 °C; Max Operating Temperature: 150 °C; Packaging: Tape and Reel; Length: 18.2 mm; Width: 18.2 mm; Height: 8.9 mm; Inductance: 1.9 µH
footprint WE-HCI_1890
simulation model 1890_7443556190_1.9u
pins: 1, 2

## 7443556260
designator L?, comment 2.6 µH
WE-HCI SMT Flat Wire High Current Inductor, size 1890, 2.6 µH, 36.8 A, 1.58 mΩ; Manufacturer Part Number: 7443556260; Manufacturer: Wurth Elektronik; Case/Size Code: 1890; DC Resistance: 1.58 mΩ; Material: WE-PERM 2; Performance Rated Current: 36.8 A; Saturation Current: 50 A; Self Resonant Frequency: 42 MHz; Category: Power Inductors; Match Code: WE-HCI; ComponentLink1Description: Website Link; ComponentLink1URL: https://www.we-online.com/redexpert/article/7443556260?ad; ComponentLink2Description: Datasheet Link; ComponentLink2URL: https://www.we-online.com/redexpert/spec/7443556260?ad; Mount: Surface Mount; Min Operating Temperature: -40 °C; Max Operating Temperature: 150 °C; Packaging: Tape and Reel; Length: 18.2 mm; Width: 18.2 mm; Height: 8.9 mm; Inductance: 2.6 µH
footprint WE-HCI_1890
simulation model 1890_7443556260_2.6u
pins: 1, 2

## 7443556350
designator L?, comment 3.5 µH
WE-HCI SMT Flat Wire High Current Inductor, size 1890, 3.5 µH, 24.2 A, 3.1 mΩ; Manufacturer Part Number: 7443556350; Manufacturer: Wurth Elektronik; Case/Size Code: 1890; DC Resistance: 3.1 mΩ; Material: WE-PERM 2; Performance Rated Current: 24.2 A; Saturation Current: 37 A; Self Resonant Frequency: 38 MHz; Category: Power Inductors; Match Code: WE-HCI; ComponentLink1Description: Website Link; ComponentLink1URL: https://www.we-online.com/redexpert/article/7443556350?ad; ComponentLink2Description: Datasheet Link; ComponentLink2URL: https://www.we-online.com/redexpert/spec/7443556350?ad; Mount: Surface Mount; Min Operating Temperature: -40 °C; Max Operating Temperature: 150 °C; Packaging: Tape and Reel; Length: 18.2 mm; Width: 18.2 mm; Height: 8.9 mm; Inductance: 3.5 µH
footprint WE-HCI_1890
simulation model 1890_7443556350_3.5u
pins: 1, 2

## 7443556450
designator L?, comment 4.5 µH
WE-HCI SMT Flat Wire High Current Inductor, size 1890, 4.5 µH, 23.5 A, 3.4 mΩ; Manufacturer Part Number: 7443556450; Manufacturer: Wurth Elektronik; Case/Size Code: 1890; DC Resistance: 3.4 mΩ; Material: WE-PERM 2; Performance Rated Current: 23.5 A; Saturation Current: 37 A; Self Resonant Frequency: 35 MHz; Category: Power Inductors; Match Code: WE-HCI; ComponentLink1Description: Website Link; ComponentLink1URL: https://www.we-online.com/redexpert/article/7443556450?ad; ComponentLink2Description: Datasheet Link; ComponentLink2URL: https://www.we-online.com/redexpert/spec/7443556450?ad; Mount: Surface Mount; Min Operating Temperature: -40 °C; Max Operating Temperature: 150 °C; Packaging: Tape and Reel; Length: 18.2 mm; Width: 18.2 mm; Height: 8.9 mm; Inductance: 4.5 µH
footprint WE-HCI_1890
simulation model 1890_7443556450_4.5u
pins: 1, 2

## 7443556560
designator L?, comment 5.6 µH
WE-HCI SMT Flat Wire High Current Inductor, size 1890, 5.6 µH, 22.8 A, 3.7 mΩ; Manufacturer Part Number: 7443556560; Manufacturer: Wurth Elektronik; Case/Size Code: 1890; DC Resistance: 3.7 mΩ; Material: WE-PERM 2; Performance Rated Current: 22.8 A; Saturation Current: 33 A; Self Resonant Frequency: 28 MHz; Category: Power Inductors; Match Code: WE-HCI; ComponentLink1Description: Website Link; ComponentLink1URL: https://www.we-online.com/redexpert/article/7443556560?ad; ComponentLink2Description: Datasheet Link; ComponentLink2URL: https://www.we-online.com/redexpert/spec/7443556560?ad; Mount: Surface Mount; Min Operating Temperature: -40 °C; Max Operating Temperature: 150 °C; Packaging: Tape and Reel; Length: 18.2 mm; Width: 18.2 mm; Height: 8.9 mm; Inductance: 5.6 µH
footprint WE-HCI_1890
simulation model 1890_7443556560_5.6u
pins: 1, 2

## 7443556680
designator L?, comment 6.8 µH
WE-HCI SMT Flat Wire High Current Inductor, size 1890, 6.8 µH, 22 A, 4.1 mΩ; Manufacturer Part Number: 7443556680; Manufacturer: Wurth Elektronik; Case/Size Code: 1890; DC Resistance: 4.1 mΩ; Material: WE-PERM 2; Performance Rated Current: 22 A; Saturation Current: 27 A; Self Resonant Frequency: 24 MHz; Category: Power Inductors; Match Code: WE-HCI; ComponentLink1Description: Website Link; ComponentLink1URL: https://www.we-online.com/redexpert/article/7443556680?ad; ComponentLink2Description: Datasheet Link; ComponentLink2URL: https://www.we-online.com/redexpert/spec/7443556680?ad; Mount: Surface Mount; Min Operating Temperature: -40 °C; Max Operating Temperature: 150 °C; Packaging: Tape and Reel; Length: 18.2 mm; Width: 18.2 mm; Height: 8.9 mm; Inductance: 6.8 µH
footprint WE-HCI_1890
simulation model 1890_7443556680_6.8u
pins: 1, 2

## 7443557560
designator L?, comment 5.6 µH
WE-HCI SMT Flat Wire High Current Inductor, size 1890, 5.6 µH, 27.1 A, 2.82 mΩ; Manufacturer Part Number: 7443557560; Manufacturer: Wurth Elektronik; Case/Size Code: 1890; DC Resistance: 2.82 mΩ; Material: MnZn; Performance Rated Current: 27.1 A; Saturation Current: 29 A; Self Resonant Frequency: 26 MHz; Category: Power Inductors; Match Code: WE-HCI; ComponentLink1Description: Website Link; ComponentLink1URL: https://www.we-online.com/redexpert/article/7443557560?ad; ComponentLink2Description: Datasheet Link; ComponentLink2URL: https://www.we-online.com/redexpert/spec/7443557560?ad; Mount: Surface Mount; Min Operating Temperature: -40 °C; Max Operating Temperature: 125 °C; Packaging: Tape and Reel; Length: 18.2 mm; Width: 18.2 mm; Height: 8.9 mm; Inductance: 5.6 µH
footprint WE-HCI_1890
simulation model 1890_7443557560_5.6u
pins: 1, 2

## 7443557760
designator L?, comment 7.6 µH
WE-HCI SMT Flat Wire High Current Inductor, size 1890, 7.6 µH, 22.8 A, 3.75 mΩ; Manufacturer Part Number: 7443557760; Manufacturer: Wurth Elektronik; Case/Size Code: 1890; DC Resistance: 3.75 mΩ; Material: MnZn; Performance Rated Current: 22.8 A; Saturation Current: 22 A; Self Resonant Frequency: 20 MHz; Category: Power Inductors; Match Code: WE-HCI; ComponentLink1Description: Website Link; ComponentLink1URL: https://www.we-online.com/redexpert/article/7443557760?ad; ComponentLink2Description: Datasheet Link; ComponentLink2URL: https://www.we-online.com/redexpert/spec/7443557760?ad; Mount: Surface Mount; Min Operating Temperature: -40 °C; Max Operating Temperature: 125 °C; Packaging: Tape and Reel; Length: 18.2 mm; Width: 18.2 mm; Height: 8.9 mm; Inductance: 7.6 µH
footprint WE-HCI_1890
simulation model 1890_7443557760_7.6u
pins: 1, 2

## 74435561100
designator L?, comment 10 µH
WE-HCI SMT Flat Wire High Current Inductor, size 1890, 10 µH, 16.5 A, 6.9 mΩ; Manufacturer Part Number: 74435561100; Manufacturer: Wurth Elektronik; Case/Size Code: 1890; DC Resistance: 6.9 mΩ; Material: WE-PERM 2; Performance Rated Current: 16.5 A; Saturation Current: 21.5 A; Self Resonant Frequency: 14 MHz; Category: Power Inductors; Match Code: WE-HCI; ComponentLink1Description: Website Link; ComponentLink1URL: https://www.we-online.com/redexpert/article/74435561100?ad; ComponentLink2Description: Datasheet Link; ComponentLink2URL: https://www.we-online.com/redexpert/spec/74435561100?ad; Mount: Surface Mount; Min Operating Temperature: -40 °C; Max Operating Temperature: 150 °C; Packaging: Tape and Reel; Length: 18.2 mm; Width: 18.2 mm; Height: 8.9 mm; Inductance: 10 µH
footprint WE-HCI_1890
simulation model 1890_74435561100_10u
pins: 1, 2